# EAGLE library part CHESTER-U-NO-STENCIL (library hardwario)
CHESTER-U1 module Package Description: 38.1x38.1-38pin Mounting Technology: SMT Manufacturer Name: HARDWARIO Manufacturer Part Number: CHESTER-U1
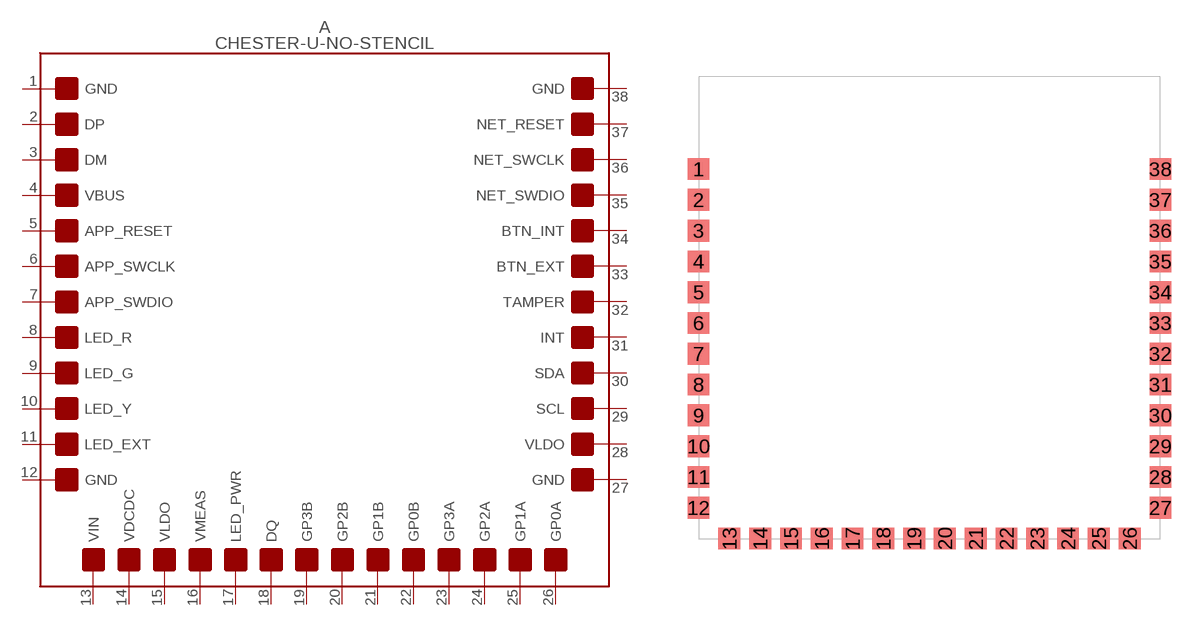
[diagram p6: symbol with the pads of CHESTER-U-NO-STENCIL; footprint CHESTER-U-NO-STENCIL]

Designator prefix A

## CHESTER-U-NO-STENCIL (BCPN: BC-FINAL-CHESTER-U1; VALUE: CHESTER-U1)  [CHESTER-U-NO-STENCIL]
1  GND_1  pas
2  DP  pas
3  DM  pas
4  VBUS  pas
5  APP_RESET  pas
6  APP_SWCLK  pas
7  APP_SWDIO  pas
8  LED_R  pas
9  LED_G  pas
10  LED_Y  pas
11  LED_EXT  pas
12  GND_2  pas
13  VIN  pas
14  VDCDC  pas
15  VLDO_1  pas
16  VMEAS  pas
17  LED_PWR  pas
18  DQ  pas
19  GP3B  pas
20  GP2B  pas
21  GP1B  pas
22  GP0B  pas
23  GP3A  pas
24  GP2A  pas
25  GP1A  pas
26  GP0A  pas
27  GND_3  pas
28  VLDO_2  pas
29  SCL  pas
30  SDA  pas
31  INT  pas
32  TAMPER  pas
33  BTN_EXT  pas
34  BTN_INT  pas
35  NET_SWDIO  pas
36  NET_SWCLK  pas
37  NET_RESET  pas
38  GND_4  pas

## Footprint CHESTER-U-NO-STENCIL (pad centres in mm)
smd 1.8 x 1.8: 1 -19.05,11.43; 2 -19.05,8.89; 3 -19.05,6.35; 4 -19.05,3.81; 5 -19.05,1.27; 6 -19.05,-1.27; 7 -19.05,-3.81; 8 -19.05,-6.35; 9 -19.05,-8.89; 10 -19.05,-11.43; 11 -19.05,-13.97; 12 -19.05,-16.51; 13 -16.51,-19.05; 14 -13.97,-19.05; 15 -11.43,-19.05; 16 -8.89,-19.05; 17 -6.35,-19.05; 18 -3.81,-19.05; 19 -1.27,-19.05; 20 1.27,-19.05; 21 3.81,-19.05; 22 6.35,-19.05; 23 8.89,-19.05; 24 11.43,-19.05; 25 13.97,-19.05; 26 16.51,-19.05; 27 19.05,-16.51; 28 19.05,-13.97; 29 19.05,-11.43; 30 19.05,-8.89; 31 19.05,-6.35; 32 19.05,-3.81; 33 19.05,-1.27; 34 19.05,1.27; 35 19.05,3.81; 36 19.05,6.35; 37 19.05,8.89; 38 19.05,11.43